# Altium schematic symbol library TPS610994YFFT.SchLib: 2 symbols
Pins are listed as number, name and electrical type; pins without a type are passive.

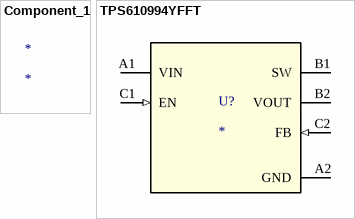
[diagram p0: symbols Component_1 to TPS610994YFFT]

## Component_1
designator *

## TPS610994YFFT
designator U?
No Description Available; Mfr_Name: Texas Instruments; TYPE: TYPE; RefDes: RefDes
footprint YFF0006AFAD
pins: A1 VIN (power), A2 GND (power), B1 SW (power), B2 VOUT (power), C1 EN (in), C2 FB (in)